# EAGLE library part MSP430FR5728 (library msp430)
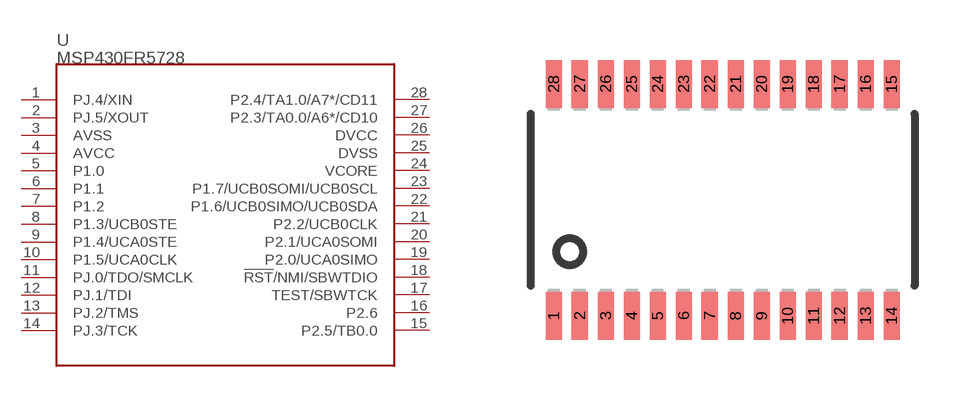
[diagram p1: symbol with the pads of PW_R-PDSO-G28; footprint PW_R-PDSO-G28]

Designator prefix -

## MSP430FR5728  [PW_R-PDSO-G28]
1  PJ.4/XIN
2  PJ.5/XOUT
3  AVSS
4  AVCC
5  P1.0
6  P1.1
7  P1.2
8  P1.3/UCB0STE
9  P1.4/UCA0STE
10  P1.5/UCA0CLK
11  PJ.0/TDO/SMCLK
12  PJ.1/TDI
13  PJ.2/TMS
14  PJ.3/TCK
15  P2.5/TB0.0
16  P2.6
17  TEST/SBWTCK
18  !RST!/NMI/SBWTDIO
19  P2.0/UCA0SIMO
20  P2.1/UCA0SOMI
21  P2.2/UCB0CLK
22  P1.6/UCB0SIMO/UCB0SDA
23  P1.7/UCB0SOMI/UCB0SCL
24  VCORE
25  DVSS
26  DVCC
27  P2.3/TA0.0/A6*/CD10
28  P2.4/TA1.0/A7*/CD11

## Footprint PW_R-PDSO-G28 (pad centres in mm)
PLASTIC SMALL-OUTLINE PACKAGE SO 28 JEDEC MO-153, PW Type Source: www.ti.com/.. slvs087l.pdf
smd 0.4 x 1.2: 1 -4.225,-2.9; 2 -3.575,-2.9; 3 -2.925,-2.9; 4 -2.275,-2.9; 5 -1.625,-2.9; 6 -0.975,-2.9; 7 -0.325,-2.9; 8 0.325,-2.9; 9 0.975,-2.9; 10 1.625,-2.9; 11 2.275,-2.9; 12 2.925,-2.9; 13 3.575,-2.9; 14 4.225,-2.9; 15 4.225,2.9; 16 3.575,2.9; 17 2.925,2.9; 18 2.275,2.9; 19 1.625,2.9; 20 0.975,2.9; 21 0.325,2.9; 22 -0.325,2.9; 23 -0.975,2.9; 24 -1.625,2.9; 25 -2.275,2.9; 26 -2.925,2.9; 27 -3.575,2.9; 28 -4.225,2.9